# Altium schematic symbol library 74HC21D,653.SchLib: 1 symbol
Pins are listed as number, name and electrical type; pins without a type are passive.

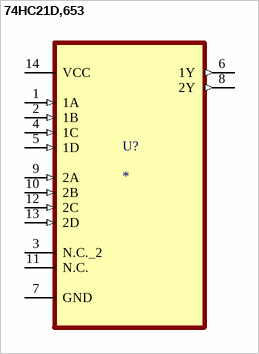
[diagram p0: symbol 74HC21D,653]

## 74HC21D,653
designator U?
Dual 4-input AND gate; MF: {'manufacturer': u'Nexperia USA'}; MP: 74HC21D,653; Value: *; Availability: Unavailable; Price: None; Package: None
footprint SOIC127P600X175-14N
pins: 1 1A (in), 2 1B (in), 3 N.C._2, 4 1C (in), 5 1D (in), 6 1Y (out), 7 GND, 8 2Y (out), 9 2A (in), 10 2B (in), 11 N.C., 12 2C (in), 13 2D (in), 14 VCC (power)